# EAGLE library part WUERTH_MICROSD (library LVK)
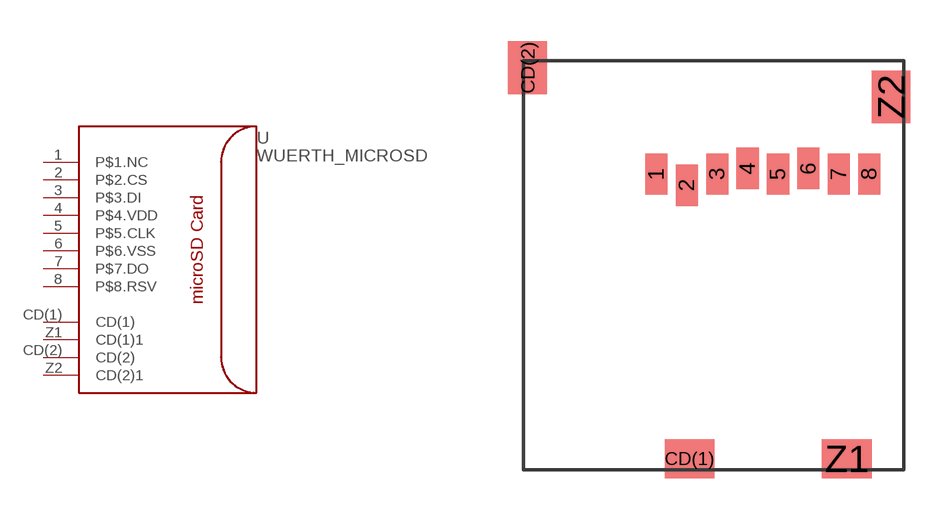
[diagram p3: symbol with the pads of WUERTH_MICROSD; footprint WUERTH_MICROSD]

Designator prefix -

## WUERTH_MICROSD  [WUERTH_MICROSD]
1  P$1.NC
2  P$2.CS
3  P$3.DI
4  P$4.VDD
5  P$5.CLK
6  P$6.VSS
7  P$7.DO
8  P$8.RSV
CD(1)  CD(1)
CD(2)  CD(2)
Z1  CD(1)1
Z2  CD(2)1

## Footprint WUERTH_MICROSD (pad centres in mm)
smd 0.8 x 1.5: 1 -2.54,3.81; 2 -1.44,3.41; 3 -0.34,3.81; 4 0.76,4.01; 5 1.86,3.81; 6 2.96,4.01; 7 4.06,3.81; 8 5.16,3.81
smd 1.8 x 1.4: CD(1) -1.34,-6.49; Z1 4.35,-6.49
smd 1.4 x 1.9: CD(2) -7.2,7.66; Z2 5.95,6.61